# Altium footprint library DIP-T  0607.PCBlib: 108 footprints (part 4 of 7)
Each footprint in its own frame and in the unit in brackets; x right, y up, seen from the top. Pads: shape width x height; smd on the part's side, far side on the other; paste and mask are expansions set on the pad; w line width, h text height; cw(c..) or ccw(c..) is an arc to the next point about the centre after c.
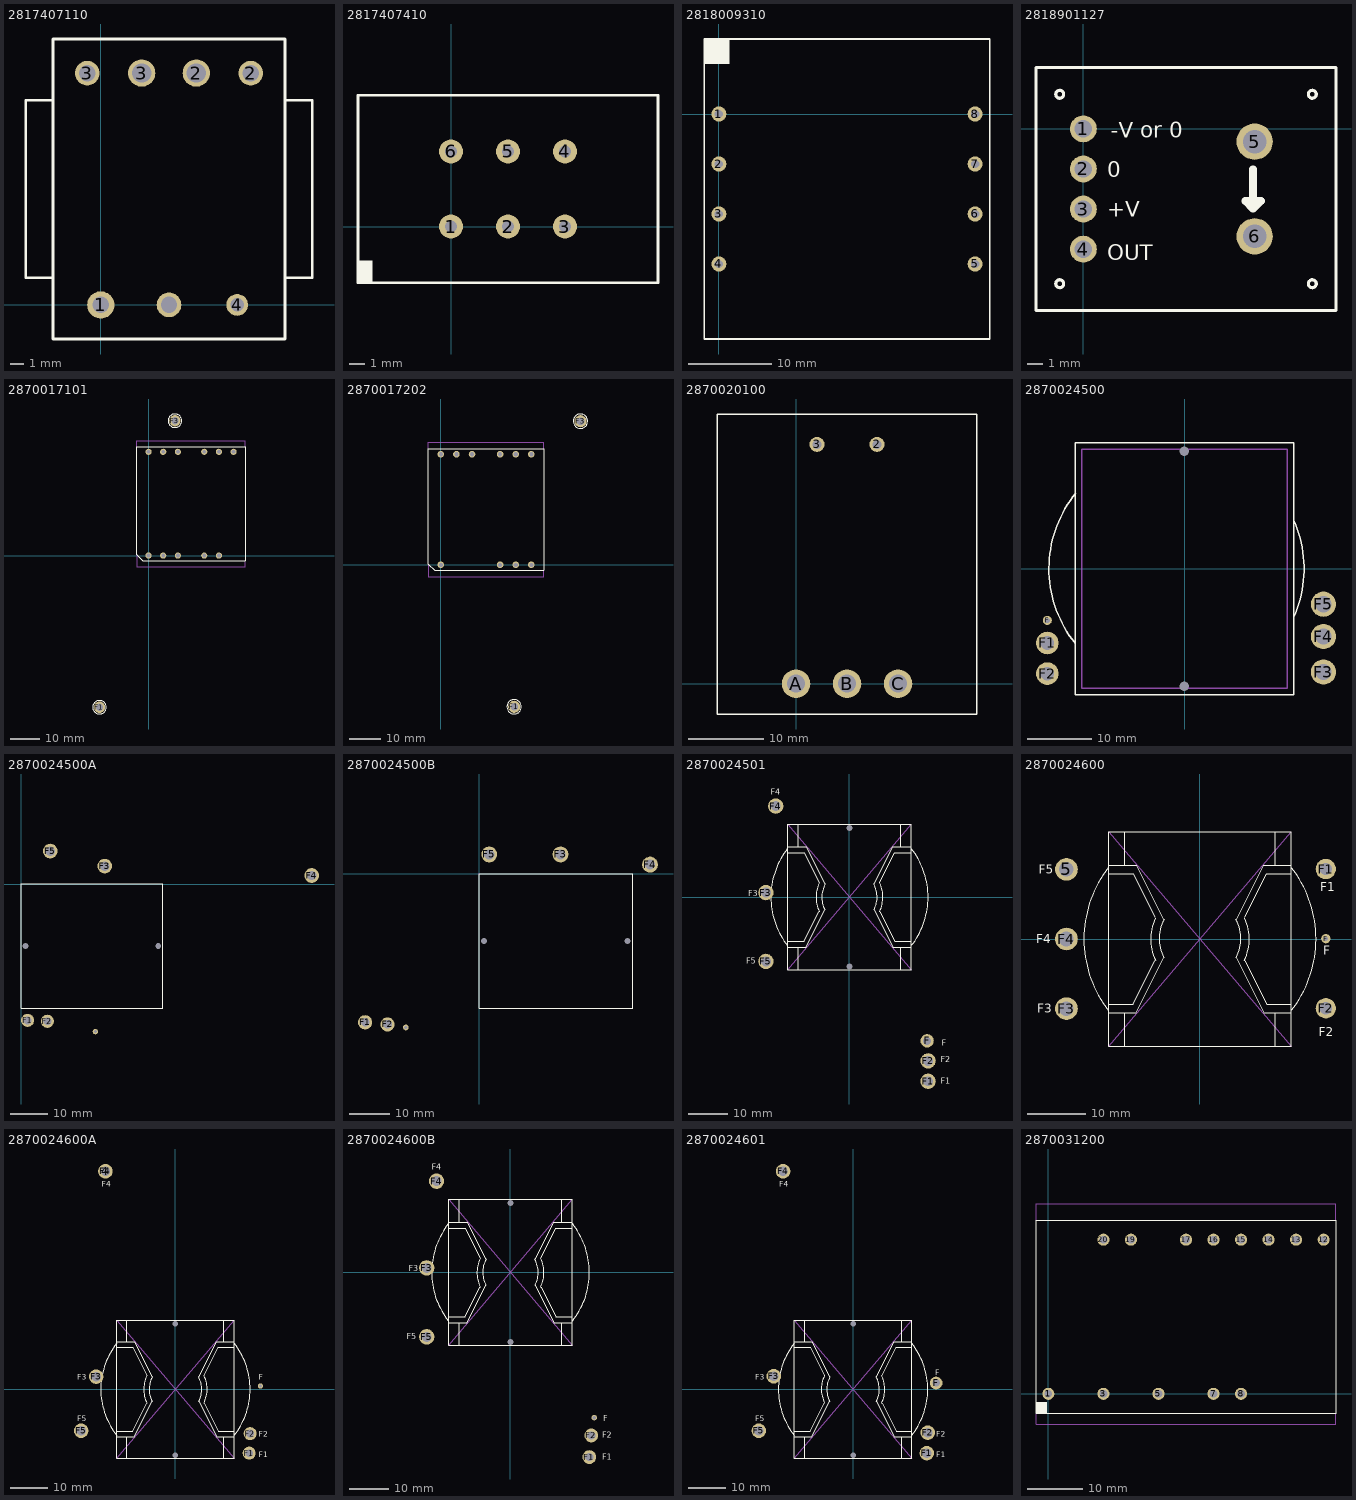
[diagram p3: the footprints below, top view; thin cyan lines are the x and y axes]

## 2817407110 [mm] "E-7908"
height 20
pads (7):
  round 2 hole 1.2: 1(0,0)
  round 2 hole 1.4: 2(7,17) 3(3,17)
  round 1.8 hole 1.2: 2(11,17) 3(-1,17) ""(5,0)
  round 1.6 hole 1: 4(10,0)
Top Overlay:
  lines w0.2: -3.5,2 -5.5,2 -5.5,15 -3.5,15 ; 13.5,2 13.5,15 ; 13.5,2 13.5,-2.5 -3.5,-2.5 -3.5,19.5 -1,19.5 13.5,19.5 13.5,15 ; 13.5,2 15.5,2 15.5,15 13.5,15

## 2817407410 [mm] "E-8293"
height 30
pads (6):
  round 1.6 hole 0.8: 1(0,0) 2(3.8,0) 3(7.6,0) 4(7.6,5) 5(3.8,5) 6(0,5)
Top Overlay:
  rectangle: -6.2,-3.75 -5.25,-2.25
  lines w0.2: -6.2,-3.75 13.8,-3.75 13.8,8.75 -6.2,8.75 -6.2,-3.75

## 2818009310 [mm]
height 33
pads (8):
  round 1.8 hole 1: 1(0,0) 2(0,-6) 3(0,-12) 4(0,-18) 5(30.75,-18) 6(30.75,-12) 7(30.75,-6) 8(30.75,0)
Top Overlay:
  region: -1.75,9 -1.75,6 1.25,6 1.25,9
  lines w0.2: -1.75,-27 32.5,-27 32.5,9 -1.75,9 -1.75,-27

## 2818901127 [mm]
height 20
pads (6):
  round 1.7 hole 1.1: 1(0,0) 2(0,-2.54) 3(0,-5.08) 4(0,-7.62)
  round 2.3 hole 1.5: 5(10.85,-0.81) 6(10.85,-6.81)
Top Overlay:
  circle w0.2: c-1.5,-9.81 r0.25
  circle w0.2: c14.5,-9.81 r0.25
  circle w0.2: c14.5,2.19 r0.25
  circle w0.2: c-1.5,2.19 r0.25
  lines w0.2: -3,-11.51 16,-11.51 16,3.89 -3,3.89 -3,-11.51 ; 10.75,-5.06 10.75,-5.06
  lines w0.5: 10.75,-2.56 10.75,-5.06 ; 10.75,-5.06 10.25,-4.56 11.25,-4.56 10.75,-5.06
  text "OUT" at 1.5,-8.31 h1
  text "+V" at 1.5,-5.56 h1
  text "0" at 1.5,-3.06 h1
  text "-V or 0" at 1.75,-0.56 h1

## 2870017101 [mm]
height 38.5
pads (13):
  round 2.1 hole 1.3: 1(0,0) 2(5,0) 3(10,0) 4(19,0) 5(24,0) 7(29,35.4) 8(24,35.4) 9(19,35.4) 10(10,35.4) 11(5,35.4) 12(0,35.4)
  round 3.9 hole 2.5: F1(-16.75,-51.75) F3(9,46)
Top Overlay:
  circle w0.2: c9,46 r2.3
  circle w0.2: c-16.75,-51.75 r2.3
  lines w0.2: -4,0.2 -4,37.2 33,37.2 33,-1.8 -2,-1.8 -4,0.2
Mechanical 7:
  lines w0.2: -4,0.2 -4,-3.8 33,-3.8 33,-1.8 ; -4,37.2 -4,39.2 33,39.2 33,37.2

## 2870017202 [mm]
height 38.5
pads (12):
  round 2.1 hole 1.3: 1(0,0) 4(19,0) 5(24,0) 6(29,0) 7(29,35.4) 8(24,35.4) 9(19,35.4) 10(10,35.4) 11(5,35.4) 12(0,35.4)
  round 3.9 hole 2.5: F1(23.5,-45.5) F3(44.75,46)
Top Overlay:
  circle w0.2: c44.75,46 r2.3
  circle w0.2: c23.5,-45.5 r2.3
  lines w0.2: -4,0.2 -4,37.2 33,37.2 33,-1.8 -2,-1.8 -4,0.2
Mechanical 7:
  lines w0.2: -4,0.2 -4,-3.8 33,-3.8 33,-1.8 ; -4,37.2 -4,39.2 33,39.2 33,37.2

## 2870020100 [mm]
height 33.9
pads (5):
  round 2 hole 1.2: 2(10.8,31.9) 3(2.8,31.9)
  round 3.8 hole 2.4: A(0,0) B(6.8,0) C(13.6,0)
Top Overlay:
  lines w0.2: -10.5,-4.05 -10.5,35.95 24.1,35.95 24.1,-4.05 -10.5,-4.05

## 2870024500 [mm] "PQ3535"
height 36
pads (8):
  round 0.5 hole 1.5 unplated: 0(-0.05,-18.2) 0(-0.05,18.2)
  round 1.4 hole 0.8: F(-21.25,-8)
  round 3.5 hole 2.1: F1(-21.25,-11.5) F2(-21.25,-16.25)
  round 3.9 hole 2.5: F3(21.5,-16) F4(21.5,-10.5) F5(21.5,-5.5)
Top Overlay:
  lines w0.2: -16.956,-11.545 cw(c-2.5,0) -16.834,11.696 ; 16.91,-7.504 ccw(c0,0) 16.91,7.504 ; -16.9,-19.5 -16.9,19.5 16.9,19.5 16.9,-19.5 -16.9,-19.5
Mechanical 7:
  lines w0.2: -15.9,-18.5 15.9,-18.5 15.9,18.5 -15.9,18.5 -15.9,-18.5
Drill Drawing:
  lines w0.2: -16.4,19.5 -16.4,21.5 ; -15.7,-19 16.4,-19 16.4,15.825 ; -15.65,-19 cw(c-15.65,-18.25) -15.65,-17.5 14.9,-17.5 14.9,15.75 cw(c15.65,15.75) 16.4,15.75 ; -15.2,19 -13.2,19 ; -14.9,20 -16.4,20.5 ; -14.9,21 -16.4,20.5 ; -13.2,-17.5 -11.2,-17.5 ; -13.2,17.5 -11.2,17.5 ; -12.7,-19 -12.2,-17.5 ; -12.7,16 -12.2,17.5 ; -12.2,-20.04 -12.2,-17.5 ; -12.2,-13.96 -12.2,-16.5 ; -12.2,-1.157 -12.2,-16.5 ; -12.2,2.157 -12.2,17.5 ; -11.7,-19 -12.2,-17.5 ; -11.7,16 -12.2,17.5 ; -2.525,20.5 -16.4,20.5 ; 2.525,20.5 16.4,20.5 ; 11.1,-17.5 13.1,-17.5 ; 11.1,17.5 13.1,17.5 ; 11.6,-16 12.1,-17.5 ; 11.6,19 12.1,17.5 ; 12.1,-2.157 12.1,-17.5 ; 12.1,1.157 12.1,16.5 ; 12.1,13.96 12.1,16.5 ; 12.1,20.04 12.1,17.5 ; 12.6,-16 12.1,-17.5 ; 12.6,19 12.1,17.5 ; 13.1,-19 15.1,-19 ; 14.9,20 16.4,20.5 ; 14.9,21 16.4,20.5 ; 15.625,17.5 -14.9,17.5 -14.9,-15.75 cw(c-15.65,-15.75) -16.4,-15.75 -16.4,19 15.675,19 ; 15.65,17.5 ccw(c15.65,18.25) 15.65,19 ; 16.4,19.5 16.4,21.5 ; -12.2,-16.5 -12.7,-15 -12.2,-16.5 ; -12.2,-16.5 -11.7,-15 -12.2,-16.5 ; 12.1,16.5 11.6,15 12.1,16.5 ; 12.1,16.5 12.6,15 12.1,16.5 ; -13.2,-16.5 -11.2,-16.5 -13.2,-16.5 ; 11.1,16.5 13.1,16.5 11.1,16.5
  text "ROUT=1.5  NPTH" at -8.65,15.25 h1.5
  text "1" at 15.899,16.621 h1.5
  text "34" at 13.05,-1.903 h1.5
  text "34" at -11.25,-0.903 h1.5
  text "1" at -8.401,-17.379 h1.5
  text "32.8" at -2.271,19.55 h1.5
  text "ROUT=1.5  NPTH" at -8.65,-17 h1.5

## 2870024500A [mm]
height 36
pads (8):
  round 1 hole 1.5 unplated: 0(1.187,-16.49) 0(36.437,-16.49)
  round 1.4 hole 0.8: F(19.737,-39.24)
  round 3.5 hole 2.1: F1(1.737,-36.24) F2(6.987,-36.49)
  round 3.9 hole 2.5: F3(22.237,4.76) F4(77.237,2.26) F5(7.737,8.76)
Top Overlay:
  lines w0.2: -0.013,-32.99 37.687,-32.99 37.687,0.01 -0.013,0.01 -0.013,-32.99
Drill Drawing:
  lines w0.2: -0.553,-6.49 1.987,-6.49 ; 0.487,-6.99 1.987,-6.49 ; 0.487,-5.99 1.987,-6.49 ; 0.647,3.51 3.187,3.51 ; 1.687,3.01 3.187,3.51 ; 1.687,4.01 3.187,3.51 ; 1.987,-7.49 1.987,-5.49 ; 1.987,-1.99 1.987,-30.99 32.737,-30.99 cw(c32.737,-31.74) 32.737,-32.49 0.487,-32.49 0.487,-0.49 2.437,-0.5 cw(c2.437,-1.25) 2.437,-2 1.997,-2 ; 3.187,-7.49 3.187,-5.49 ; 3.187,2.51 3.187,4.51 ; 4.187,-7.49 4.187,-5.49 ; 4.187,2.51 4.187,4.51 ; 4.687,-6.99 3.187,-6.49 ; 4.687,-5.99 3.187,-6.49 ; 5.687,-6.99 4.187,-6.49 ; 5.687,-5.99 4.187,-6.49 ; 5.687,3.01 4.187,3.51 ; 5.687,4.01 4.187,3.51 ; 5.727,-6.49 3.187,-6.49 ; 6.727,3.51 4.187,3.51 ; 17.53,-6.49 4.187,-6.49 ; 22.345,-6.49 35.687,-6.49 ; 28.187,-30.99 30.187,-30.99 ; 28.187,-1.99 30.187,-1.99 ; 28.687,-29.49 29.187,-30.99 ; 28.687,-3.49 29.187,-1.99 ; 29.187,-18.076 29.187,-30.99 ; 29.187,-14.904 29.187,-1.99 ; 29.687,-29.49 29.187,-30.99 ; 29.687,-3.49 29.187,-1.99 ; 34.187,-6.99 35.687,-6.49 ; 34.187,-5.99 35.687,-6.49 ; 35.687,-7.49 35.687,-5.49 ; 4.937,-1.99 cw(c4.937,-1.24) 4.937,-0.49 37.187,-0.49 37.187,-32.49 35.237,-32.48 cw(c35.237,-31.73) 35.237,-30.98 35.247,-30.99 35.687,-30.99 35.687,-1.99 4.937,-1.99 ; 35.687,-5.24 35.687,-2.24 35.687,-5.24
  text "29" at 28.238,-15.158 h1.5
  text "1.2" at 1.102,-10.289 h1.5
  text "1" at 3.309,-0.289 h1.5
  text "31.5" at 17.784,-7.44 h1.5
  text "NPTH" at -2.063,-13.99 h1.5
  text "NPTH" at 37.44,-13.977 h1.5
  text "ROUT=1.5mm*2" at 2.687,-12.99 h1.2

## 2870024500B [mm]
height 36
pads (8):
  round 1 hole 1.5 unplated: 0(1.196,-16.495) 0(36.446,-16.495)
  round 1.4 hole 0.8: F(-18.004,-37.745)
  round 3.5 hole 2.1: F1(-28.004,-36.495) F2(-22.504,-36.995)
  round 3.9 hole 2.5: F3(19.996,4.755) F4(41.996,2.255) F5(2.496,4.755)
Top Overlay:
  lines w0.2: -0.004,-32.995 37.696,-32.995 37.696,0.005 -0.004,0.005 -0.004,-32.995
Drill Drawing:
  lines w0.2: -0.544,-6.495 1.996,-6.495 ; 0.496,-6.995 1.996,-6.495 ; 0.496,-5.995 1.996,-6.495 ; 0.656,3.505 3.196,3.505 ; 1.696,3.005 3.196,3.505 ; 1.696,4.005 3.196,3.505 ; 1.996,-7.495 1.996,-5.495 ; 1.996,-1.995 1.996,-30.995 32.746,-30.995 cw(c32.746,-31.745) 32.746,-32.495 0.496,-32.495 0.496,-0.495 2.446,-0.505 cw(c2.446,-1.255) 2.446,-2.005 2.006,-2.005 ; 3.196,-7.495 3.196,-5.495 ; 3.196,2.505 3.196,4.505 ; 4.196,-7.495 4.196,-5.495 ; 4.196,2.505 4.196,4.505 ; 4.696,-6.995 3.196,-6.495 ; 4.696,-5.995 3.196,-6.495 ; 5.696,-6.995 4.196,-6.495 ; 5.696,-5.995 4.196,-6.495 ; 5.696,3.005 4.196,3.505 ; 5.696,4.005 4.196,3.505 ; 5.736,-6.495 3.196,-6.495 ; 6.736,3.505 4.196,3.505 ; 17.539,-6.495 4.196,-6.495 ; 22.354,-6.495 35.696,-6.495 ; 28.196,-30.995 30.196,-30.995 ; 28.196,-1.995 30.196,-1.995 ; 28.696,-29.495 29.196,-30.995 ; 28.696,-3.495 29.196,-1.995 ; 29.196,-18.08 29.196,-30.995 ; 29.196,-14.909 29.196,-1.995 ; 29.696,-29.495 29.196,-30.995 ; 29.696,-3.495 29.196,-1.995 ; 34.196,-6.995 35.696,-6.495 ; 34.196,-5.995 35.696,-6.495 ; 35.696,-7.495 35.696,-5.495 ; 4.946,-1.995 cw(c4.946,-1.245) 4.946,-0.495 37.196,-0.495 37.196,-32.495 35.246,-32.485 cw(c35.246,-31.735) 35.246,-30.985 35.256,-30.995 35.696,-30.995 35.696,-1.995 4.946,-1.995 ; 35.696,-5.245 35.696,-2.245 35.696,-5.245
  text "29" at 28.247,-15.163 h1.5
  text "1.2" at 1.111,-10.294 h1.5
  text "1" at 3.318,-0.294 h1.5
  text "31.5" at 17.793,-7.444 h1.5
  text "NPTH" at -2.054,-13.995 h1.5
  text "NPTH" at 37.449,-13.982 h1.5
  text "ROUT=1.5mm*2" at 2.696,-12.995 h1.2

## 2870024501 [mm]
height 36
pads (8):
  round 1 hole 1.5 unplated: 0(0,-17.65) 0(0,17.6)
  round 3.4 hole 2: F(19.75,-36.55)
  round 3.9 hole 2.5: F1(20,-46.85) F2(20,-41.65) F3(-21.25,1.15) F4(-18.75,23.15) F5(-21.25,-16.35)
Top Overlay:
  lines w0.2: -15.768,-12.303 cw(c0,0) -15.768,12.303 ; -15.7,-12.75 -13,-12.75 ; -15.7,-11.25 -11.5,-11.25 -7.75,-3.75 ; -15.7,11.25 -11.5,11.25 -7.75,3.75 ; -15.7,12.75 -13,12.75 ; -13,-18.5 -13,-12.75 ; -13,18.5 -13,12.75 ; -7.703,3.595 ccw(c0,0) -7.651,-3.702 ; -6.25,3.25 -11,12.75 -13,12.75 ; -6.194,3.355 ccw(c0,0) -6.25,-3.25 -11,-12.75 -13,-12.75 ; 6.194,3.355 cw(c0,0) 6.25,-3.25 11,-12.75 13,-12.75 ; 6.25,3.25 11,12.75 13,12.75 ; 7.651,-3.702 ccw(c0,0) 7.703,3.595 ; 7.75,-3.75 11.5,-11.25 15.7,-11.25 ; 7.75,3.75 11.5,11.25 15.7,11.25 ; 13,-18.5 13,-12.75 ; 13,18.5 13,12.75 ; 15.7,-12.75 13,-12.75 ; 15.7,12.75 13,12.75 ; 15.768,-12.303 ccw(c0,0) 15.768,12.303 ; -15.7,-18.5 -15.7,18.5 15.7,18.5 15.7,-18.5 -15.7,-18.5
  text "F" at 23.5,-37.75 h1.5
  text "F1" at 23.25,-47.5 h1.5
  text "F2" at 23.25,-42 h1.5
  text "F4" at -20,26 h1.5
  text "F3" at -25.75,0.25 h1.5
  text "F5" at -26.25,-17 h1.5
Mechanical 6:
  lines w0.2: -15.7,-18.5 15.7,18.5 ; -15.7,18.5 15.7,-18.5
Drill Drawing:
  lines w0.2: -21,-15.65 -19,-15.65 ; -21,-14.65 -19,-14.65 ; -20.5,-17.15 -20,-15.65 ; -20.5,-13.15 -20,-14.65 ; -20,-18.19 -20,-15.65 ; -20,-12.11 -20,-14.65 ; -19.5,-17.15 -20,-15.65 ; -19.5,-13.15 -20,-14.65 ; -14.5,-16.85 14.5,-16.85 14.5,13.9 cw(c15.25,13.9) 16,13.9 16,-18.35 -16,-18.35 -15.99,-16.4 cw(c-15.24,-16.4) -14.49,-16.4 -14.49,-16.84 ; -14.5,9.35 -14.5,11.35 ; -13,9.85 -14.5,10.35 ; -13,10.85 -14.5,10.35 ; -11,-16.85 -9,-16.85 ; -11,-15.65 -9,-15.65 ; -11,-14.65 -9,-14.65 ; -11,16.85 -9,16.85 ; -10.5,-18.35 -10,-16.85 ; -10.5,-14.15 -10,-15.65 ; -10.5,-13.15 -10,-14.65 ; -10.5,15.35 -10,16.85 ; -10,-19.39 -10,-16.85 ; -10,-13.11 -10,-15.65 ; -10,-1.307 -10,-14.65 ; -10,3.507 -10,16.85 ; -9.5,-18.35 -10,-16.85 ; -9.5,-14.15 -10,-15.65 ; -9.5,-13.15 -10,-14.65 ; -9.5,15.35 -10,16.85 ; -1.586,10.35 -14.5,10.35 ; 1.586,10.35 14.5,10.35 ; 13,9.85 14.5,10.35 ; 13,10.85 14.5,10.35 ; 14.5,9.35 14.5,11.35 ; 19,14.65 21,14.65 ; 19,15.65 21,15.65 ; 19.5,13.15 20,14.65 ; 19.5,17.15 20,15.65 ; 20,12.11 20,14.65 ; 20,18.19 20,15.65 ; 20.5,13.15 20,14.65 ; 20.5,17.15 20,15.65 ; -16,-13.9 ccw(c-15.25,-13.9) -14.5,-13.9 -14.5,16.85 14.5,16.85 14.5,16.41 14.49,16.4 ccw(c15.24,16.4) 15.99,16.4 16,18.35 -16,18.35 -16,-13.9 ; -14.25,16.85 -11.25,16.85 -14.25,16.85
  text "1" at 16.201,15.529 h1.5
  text "1" at -16.201,-15.529 h1.5
  text "ROUT=1.5mm*2" at -1,-8 h1.2
  text "NPTH" at -2.513,18.603 h1.5
  text "NPTH" at -2.5,-20.9 h1.5
  text "31.5" at -9.05,-1.053 h1.5
  text "1.2" at -6.201,-17.735 h1.5
  text "29" at -1.332,9.4 h1.5

## 2870024600 [mm]
height 36
pads (6):
  round 3.9 hole 2.5: 5(-23,12) F3(-23,-12) F4(-23,0)
  round 1.6 hole 0.8: F(21.69,0.06)
  round 3.5 hole 2.1: F1(21.69,12.06) F2(21.69,-11.94)
Top Overlay:
  lines w0.2: -15.768,-12.303 cw(c0,0) -15.768,12.303 ; -15.7,-12.75 -13,-12.75 ; -15.7,-11.25 -11.5,-11.25 -7.75,-3.75 ; -15.7,11.25 -11.5,11.25 -7.75,3.75 ; -15.7,12.75 -13,12.75 ; -13,-18.5 -13,-12.75 ; -13,18.5 -13,12.75 ; -7.703,3.595 ccw(c0,0) -7.651,-3.702 ; -6.25,3.25 -11,12.75 -13,12.75 ; -6.194,3.355 ccw(c0,0) -6.25,-3.25 -11,-12.75 -13,-12.75 ; 6.194,3.355 cw(c0,0) 6.25,-3.25 11,-12.75 13,-12.75 ; 6.25,3.25 11,12.75 13,12.75 ; 7.651,-3.702 ccw(c0,0) 7.703,3.595 ; 7.75,-3.75 11.5,-11.25 15.7,-11.25 ; 7.75,3.75 11.5,11.25 15.7,11.25 ; 13,-18.5 13,-12.75 ; 13,18.5 13,12.75 ; 15.7,-12.75 13,-12.75 ; 15.7,12.75 13,12.75 ; 15.768,-12.303 ccw(c0,0) 15.768,12.303 ; -15.7,-18.5 -15.7,18.5 15.7,18.5 15.7,-18.5 -15.7,-18.5
  text "F" at 21.25,-2.75 h1.5
  text "F1" at 20.75,8.25 h1.5
  text "F2" at 20.5,-16.75 h1.5
  text "F3" at -28,-12.75 h1.5
  text "F5" at -27.75,11.25 h1.5
  text "F4" at -28.25,-0.75 h1.5
Mechanical 6:
  lines w0.2: -15.7,-18.5 15.7,18.5 ; -15.7,18.5 15.7,-18.5

## 2870024600A [mm]
height 36
pads (9):
  round 1 hole 1.5 unplated: 0(0,-17.65) 0(0,17.6)
  round 3.9 hole 2.5: 4(-18.75,58.4) F3(-21.25,3.4) F4(-18.75,58.4) F5(-25.25,-11.1)
  round 1.4 hole 0.8: F(22.75,0.9)
  round 3.5 hole 2.1: F1(19.75,-17.1) F2(20,-11.85)
Top Overlay:
  lines w0.2: -15.768,-12.303 cw(c0,0) -15.768,12.303 ; -15.7,-12.75 -13,-12.75 ; -15.7,-11.25 -11.5,-11.25 -7.75,-3.75 ; -15.7,11.25 -11.5,11.25 -7.75,3.75 ; -15.7,12.75 -13,12.75 ; -13,-18.5 -13,-12.75 ; -13,18.5 -13,12.75 ; -7.703,3.595 ccw(c0,0) -7.651,-3.702 ; -6.25,3.25 -11,12.75 -13,12.75 ; -6.194,3.355 ccw(c0,0) -6.25,-3.25 -11,-12.75 -13,-12.75 ; 6.194,3.355 cw(c0,0) 6.25,-3.25 11,-12.75 13,-12.75 ; 6.25,3.25 11,12.75 13,12.75 ; 7.651,-3.702 ccw(c0,0) 7.703,3.595 ; 7.75,-3.75 11.5,-11.25 15.7,-11.25 ; 7.75,3.75 11.5,11.25 15.7,11.25 ; 13,-18.5 13,-12.75 ; 13,18.5 13,12.75 ; 15.7,-12.75 13,-12.75 ; 15.7,12.75 13,12.75 ; 15.768,-12.303 ccw(c0,0) 15.768,12.303 ; -15.7,-18.5 -15.7,18.5 15.7,18.5 15.7,-18.5 -15.7,-18.5
  text "F" at 22.25,2.5 h1.5
  text "F1" at 22.25,-18.25 h1.5
  text "F2" at 22.25,-12.75 h1.5
  text "F4" at -19.75,54.25 h1.5
  text "F3" at -26.25,2.5 h1.5
  text "F5" at -26.25,-8.5 h1.5
Mechanical 6:
  lines w0.2: -15.7,-18.5 15.7,18.5 ; -15.7,18.5 15.7,-18.5
Drill Drawing:
  lines w0.2: -21,-15.65 -19,-15.65 ; -21,-14.65 -19,-14.65 ; -20.5,-17.15 -20,-15.65 ; -20.5,-13.15 -20,-14.65 ; -20,-18.19 -20,-15.65 ; -20,-12.11 -20,-14.65 ; -19.5,-17.15 -20,-15.65 ; -19.5,-13.15 -20,-14.65 ; -14.5,-16.85 14.5,-16.85 14.5,13.9 cw(c15.25,13.9) 16,13.9 16,-18.35 -16,-18.35 -15.99,-16.4 cw(c-15.24,-16.4) -14.49,-16.4 -14.49,-16.84 ; -14.5,9.35 -14.5,11.35 ; -13,9.85 -14.5,10.35 ; -13,10.85 -14.5,10.35 ; -11,-16.85 -9,-16.85 ; -11,-15.65 -9,-15.65 ; -11,-14.65 -9,-14.65 ; -11,16.85 -9,16.85 ; -10.5,-18.35 -10,-16.85 ; -10.5,-14.15 -10,-15.65 ; -10.5,-13.15 -10,-14.65 ; -10.5,15.35 -10,16.85 ; -10,-19.39 -10,-16.85 ; -10,-13.11 -10,-15.65 ; -10,-1.307 -10,-14.65 ; -10,3.507 -10,16.85 ; -9.5,-18.35 -10,-16.85 ; -9.5,-14.15 -10,-15.65 ; -9.5,-13.15 -10,-14.65 ; -9.5,15.35 -10,16.85 ; -1.586,10.35 -14.5,10.35 ; 1.586,10.35 14.5,10.35 ; 13,9.85 14.5,10.35 ; 13,10.85 14.5,10.35 ; 14.5,9.35 14.5,11.35 ; 19,14.65 21,14.65 ; 19,15.65 21,15.65 ; 19.5,13.15 20,14.65 ; 19.5,17.15 20,15.65 ; 20,12.11 20,14.65 ; 20,18.19 20,15.65 ; 20.5,13.15 20,14.65 ; 20.5,17.15 20,15.65 ; -16,-13.9 ccw(c-15.25,-13.9) -14.5,-13.9 -14.5,16.85 14.5,16.85 14.5,16.41 14.49,16.4 ccw(c15.24,16.4) 15.99,16.4 16,18.35 -16,18.35 -16,-13.9 ; -14.25,16.85 -11.25,16.85 -14.25,16.85
  text "1" at 16.201,15.529 h1.5
  text "1" at -16.201,-15.529 h1.5
  text "ROUT=1.5mm*2" at -1,-8 h1.2
  text "NPTH" at -2.513,18.603 h1.5
  text "NPTH" at -2.5,-20.9 h1.5
  text "31.5" at -9.05,-1.053 h1.5
  text "1.2" at -6.201,-17.735 h1.5
  text "29" at -1.332,9.4 h1.5

## 2870024600B [mm]
pads (8):
  round 1 hole 1.5 unplated: 0(0,-17.65) 0(0,17.6)
  round 1.4 hole 0.8: F(21.25,-36.85)
  round 3.5 hole 2.1: F1(20,-46.85) F2(20.5,-41.35)
  round 3.9 hole 2.5: F3(-21.25,1.15) F4(-18.75,23.15) F5(-21.25,-16.35)
Top Overlay:
  lines w0.2: -15.768,-12.303 cw(c0,0) -15.768,12.303 ; -15.7,-12.75 -13,-12.75 ; -15.7,-11.25 -11.5,-11.25 -7.75,-3.75 ; -15.7,11.25 -11.5,11.25 -7.75,3.75 ; -15.7,12.75 -13,12.75 ; -13,-18.5 -13,-12.75 ; -13,18.5 -13,12.75 ; -7.703,3.595 ccw(c0,0) -7.651,-3.702 ; -6.25,3.25 -11,12.75 -13,12.75 ; -6.194,3.355 ccw(c0,0) -6.25,-3.25 -11,-12.75 -13,-12.75 ; 6.194,3.355 cw(c0,0) 6.25,-3.25 11,-12.75 13,-12.75 ; 6.25,3.25 11,12.75 13,12.75 ; 7.651,-3.702 ccw(c0,0) 7.703,3.595 ; 7.75,-3.75 11.5,-11.25 15.7,-11.25 ; 7.75,3.75 11.5,11.25 15.7,11.25 ; 13,-18.5 13,-12.75 ; 13,18.5 13,12.75 ; 15.7,-12.75 13,-12.75 ; 15.7,12.75 13,12.75 ; 15.768,-12.303 ccw(c0,0) 15.768,12.303 ; -15.7,-18.5 15.7,-18.5 15.7,18.5 -15.7,18.5 -15.7,-18.5
  text "F5" at -26.25,-17 h1.5
  text "F3" at -25.75,0.25 h1.5
  text "F4" at -20,26 h1.5
  text "F2" at 23.25,-42 h1.5
  text "F1" at 23.25,-47.5 h1.5
  text "F" at 23.5,-37.75 h1.5
Mechanical 6:
  lines w0.2: -15.7,-18.5 15.7,18.5 ; -15.7,18.5 15.7,-18.5
Drill Drawing:
  lines w0.2: -21,-15.65 -19,-15.65 ; -21,-14.65 -19,-14.65 ; -20.5,-17.15 -20,-15.65 ; -20.5,-13.15 -20,-14.65 ; -20,-18.19 -20,-15.65 ; -20,-12.11 -20,-14.65 ; -19.5,-17.15 -20,-15.65 ; -19.5,-13.15 -20,-14.65 ; -14.5,-16.85 14.5,-16.85 14.5,13.9 cw(c15.25,13.9) 16,13.9 16,-18.35 -16,-18.35 -15.99,-16.4 cw(c-15.24,-16.4) -14.49,-16.4 -14.49,-16.84 ; -14.5,9.35 -14.5,11.35 ; -13,9.85 -14.5,10.35 ; -13,10.85 -14.5,10.35 ; -11,-16.85 -9,-16.85 ; -11,-15.65 -9,-15.65 ; -11,-14.65 -9,-14.65 ; -11,16.85 -9,16.85 ; -10.5,-18.35 -10,-16.85 ; -10.5,-14.15 -10,-15.65 ; -10.5,-13.15 -10,-14.65 ; -10.5,15.35 -10,16.85 ; -10,-19.39 -10,-16.85 ; -10,-13.11 -10,-15.65 ; -10,-1.307 -10,-14.65 ; -10,3.507 -10,16.85 ; -9.5,-18.35 -10,-16.85 ; -9.5,-14.15 -10,-15.65 ; -9.5,-13.15 -10,-14.65 ; -9.5,15.35 -10,16.85 ; -1.586,10.35 -14.5,10.35 ; 1.586,10.35 14.5,10.35 ; 13,9.85 14.5,10.35 ; 13,10.85 14.5,10.35 ; 14.5,9.35 14.5,11.35 ; 19,14.65 21,14.65 ; 19,15.65 21,15.65 ; 19.5,13.15 20,14.65 ; 19.5,17.15 20,15.65 ; 20,12.11 20,14.65 ; 20,18.19 20,15.65 ; 20.5,13.15 20,14.65 ; 20.5,17.15 20,15.65 ; -16,-13.9 ccw(c-15.25,-13.9) -14.5,-13.9 -14.5,16.85 14.5,16.85 14.5,16.41 14.49,16.4 ccw(c15.24,16.4) 15.99,16.4 16,18.35 -16,18.35 -16,-13.9 ; -14.25,16.85 -11.25,16.85 -14.25,16.85
  text "29" at -1.332,9.4 h1.5
  text "1.2" at -6.201,-17.735 h1.5
  text "31.5" at -9.05,-1.053 h1.5
  text "NPTH" at -2.5,-20.9 h1.5
  text "NPTH" at -2.513,18.603 h1.5
  text "ROUT=1.5mm*2" at -1,-8 h1.2
  text "1" at -16.201,-15.529 h1.5
  text "1" at 16.201,15.529 h1.5

## 2870024601 [mm]
height 36
pads (8):
  round 1 hole 1.5 unplated: 0(0,-17.65) 0(0,17.6)
  round 3.4 hole 2: F(22.25,1.7)
  round 3.9 hole 2.5: F1(19.75,-17.1) F2(20,-11.6) F3(-21.25,3.5) F4(-18.75,58.4) F5(-25.25,-11.1)
Top Overlay:
  lines w0.2: -15.768,-12.303 cw(c0,0) -15.768,12.303 ; -15.7,-12.75 -13,-12.75 ; -15.7,-11.25 -11.5,-11.25 -7.75,-3.75 ; -15.7,11.25 -11.5,11.25 -7.75,3.75 ; -15.7,12.75 -13,12.75 ; -13,-18.5 -13,-12.75 ; -13,18.5 -13,12.75 ; -7.703,3.595 ccw(c0,0) -7.651,-3.702 ; -6.25,3.25 -11,12.75 -13,12.75 ; -6.194,3.355 ccw(c0,0) -6.25,-3.25 -11,-12.75 -13,-12.75 ; 6.194,3.355 cw(c0,0) 6.25,-3.25 11,-12.75 13,-12.75 ; 6.25,3.25 11,12.75 13,12.75 ; 7.651,-3.702 ccw(c0,0) 7.703,3.595 ; 7.75,-3.75 11.5,-11.25 15.7,-11.25 ; 7.75,3.75 11.5,11.25 15.7,11.25 ; 13,-18.5 13,-12.75 ; 13,18.5 13,12.75 ; 15.7,-12.75 13,-12.75 ; 15.7,12.75 13,12.75 ; 15.768,-12.303 ccw(c0,0) 15.768,12.303 ; -15.7,-18.5 15.7,-18.5 15.7,18.5 -15.7,18.5 -15.7,-18.5
  text "F5" at -26.25,-8.5 h1.5
  text "F3" at -26.25,2.5 h1.5
  text "F4" at -19.75,54.25 h1.5
  text "F2" at 22.25,-12.75 h1.5
  text "F1" at 22.25,-18.25 h1.5
  text "F" at 22,3.75 h1.5
Mechanical 6:
  lines w0.2: -15.7,-18.5 15.7,18.5 ; -15.7,18.5 15.7,-18.5
Drill Drawing:
  lines w0.2: -21,-15.65 -19,-15.65 ; -21,-14.65 -19,-14.65 ; -20.5,-17.15 -20,-15.65 ; -20.5,-13.15 -20,-14.65 ; -20,-18.19 -20,-15.65 ; -20,-12.11 -20,-14.65 ; -19.5,-17.15 -20,-15.65 ; -19.5,-13.15 -20,-14.65 ; -14.5,-16.85 14.5,-16.85 14.5,13.9 cw(c15.25,13.9) 16,13.9 16,-18.35 -16,-18.35 -15.99,-16.4 cw(c-15.24,-16.4) -14.49,-16.4 -14.49,-16.84 ; -14.5,9.35 -14.5,11.35 ; -13,9.85 -14.5,10.35 ; -13,10.85 -14.5,10.35 ; -11,-16.85 -9,-16.85 ; -11,-15.65 -9,-15.65 ; -11,-14.65 -9,-14.65 ; -11,16.85 -9,16.85 ; -10.5,-18.35 -10,-16.85 ; -10.5,-14.15 -10,-15.65 ; -10.5,-13.15 -10,-14.65 ; -10.5,15.35 -10,16.85 ; -10,-19.39 -10,-16.85 ; -10,-13.11 -10,-15.65 ; -10,-1.307 -10,-14.65 ; -10,3.507 -10,16.85 ; -9.5,-18.35 -10,-16.85 ; -9.5,-14.15 -10,-15.65 ; -9.5,-13.15 -10,-14.65 ; -9.5,15.35 -10,16.85 ; -1.586,10.35 -14.5,10.35 ; 1.586,10.35 14.5,10.35 ; 13,9.85 14.5,10.35 ; 13,10.85 14.5,10.35 ; 14.5,9.35 14.5,11.35 ; 19,14.65 21,14.65 ; 19,15.65 21,15.65 ; 19.5,13.15 20,14.65 ; 19.5,17.15 20,15.65 ; 20,12.11 20,14.65 ; 20,18.19 20,15.65 ; 20.5,13.15 20,14.65 ; 20.5,17.15 20,15.65 ; -16,-13.9 ccw(c-15.25,-13.9) -14.5,-13.9 -14.5,16.85 14.5,16.85 14.5,16.41 14.49,16.4 ccw(c15.24,16.4) 15.99,16.4 16,18.35 -16,18.35 -16,-13.9 ; -14.25,16.85 -11.25,16.85 -14.25,16.85
  text "29" at -1.332,9.4 h1.5
  text "1.2" at -6.201,-17.735 h1.5
  text "31.5" at -9.05,-1.053 h1.5
  text "NPTH" at -2.5,-20.9 h1.5
  text "NPTH" at -2.513,18.603 h1.5
  text "ROUT=1.5mm*2" at -1,-8 h1.2
  text "1" at -16.201,-15.529 h1.5
  text "1" at 16.201,15.529 h1.5

## 2870031200 [mm]
height 61
pads (13):
  round 2.2 hole 1.4: 1(0,0) 3(10,0) 5(20,0) 7(30,0) 8(35,0) 12(50,28) 13(45,28) 14(40,28) 15(35,28) 16(30,28) 17(25,28) 19(15,28) 20(10,28)
Top Overlay:
  rectangle: -2.25,-3.5 -0.25,-1.5
  lines w0.2: -2.25,-3.5 52.25,-3.5 52.25,31.5 -2.25,31.5 -2.25,-3.5
Mechanical 7:
  lines w0.2: -2.25,-3.5 -2.25,-5.5 52.25,-5.5 52.25,-3.5 ; -2.25,31.5 -2.25,34.5 52.25,34.5 52.25,31.5